# EAGLE library part V_DÜNN (library ++Bedrahtet)
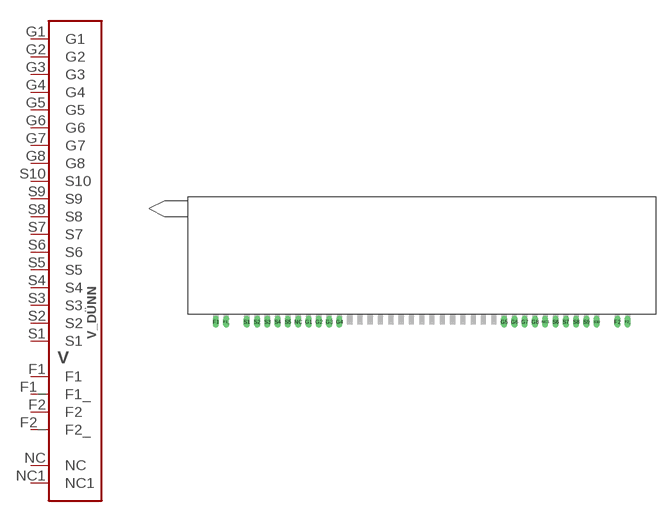
[diagram p38: symbol with the pads of VFD_DÜNN; footprint VFD_DÜNN]

Designator prefix V

## V_DÜNN  [VFD_DÜNN]
F1  F1
F1_  F1_
F2  F2
F2_  F2_
G1  G1
G2  G2
G3  G3
G4  G4
G5  G5
G6  G6
G7  G7
G8  G8
NC  NC
NC1  NC1
S1  S1
S2  S2
S3  S3
S4  S4
S5  S5
S6  S6
S7  S7
S8  S8
S9  S9
S10  S10

## Footprint VFD_DÜNN (pad centres in mm)
drill 1 long: F1 0,0; F1_ 2.54,0; F2 99.06,0; F2_ 101.6,0; G1 22.86,0; G2 25.4,0; G3 27.94,0; G4 30.48,0; G5 71.12,0; G6 73.66,0; G7 76.2,0; G8 78.74,0; NC 20.32,0; NC1 81.28,0; S1 7.62,0; S2 10.16,0; S3 12.7,0; S4 15.24,0; S5 17.78,0; S6 83.82,0; S7 86.36,0; S8 88.9,0; S9 91.44,0; S10 93.98,0